# Altium integrated library Headers 8 pin 2.5mm Pitch.IntLib: 1 symbol
Pins are listed as number, name and electrical type; pins without a type are passive.

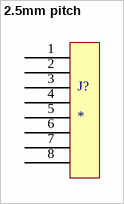
[diagram p0: symbol 2.5mm pitch]

## 2.5mm pitch
designator J?
footprint 2.5mm pitch
pins: 1, 2, 3, 4, 5, 6, 7, 8